# Altium footprint library footprintLIB.PcbLib: 49 footprints (part 1 of 4)
Each footprint in its own frame and in the unit in brackets; x right, y up, seen from the top. Pads: shape width x height; smd on the part's side, far side on the other; paste and mask are expansions set on the pad; w line width, h text height; cw(c..) or ccw(c..) is an arc to the next point about the centre after c.
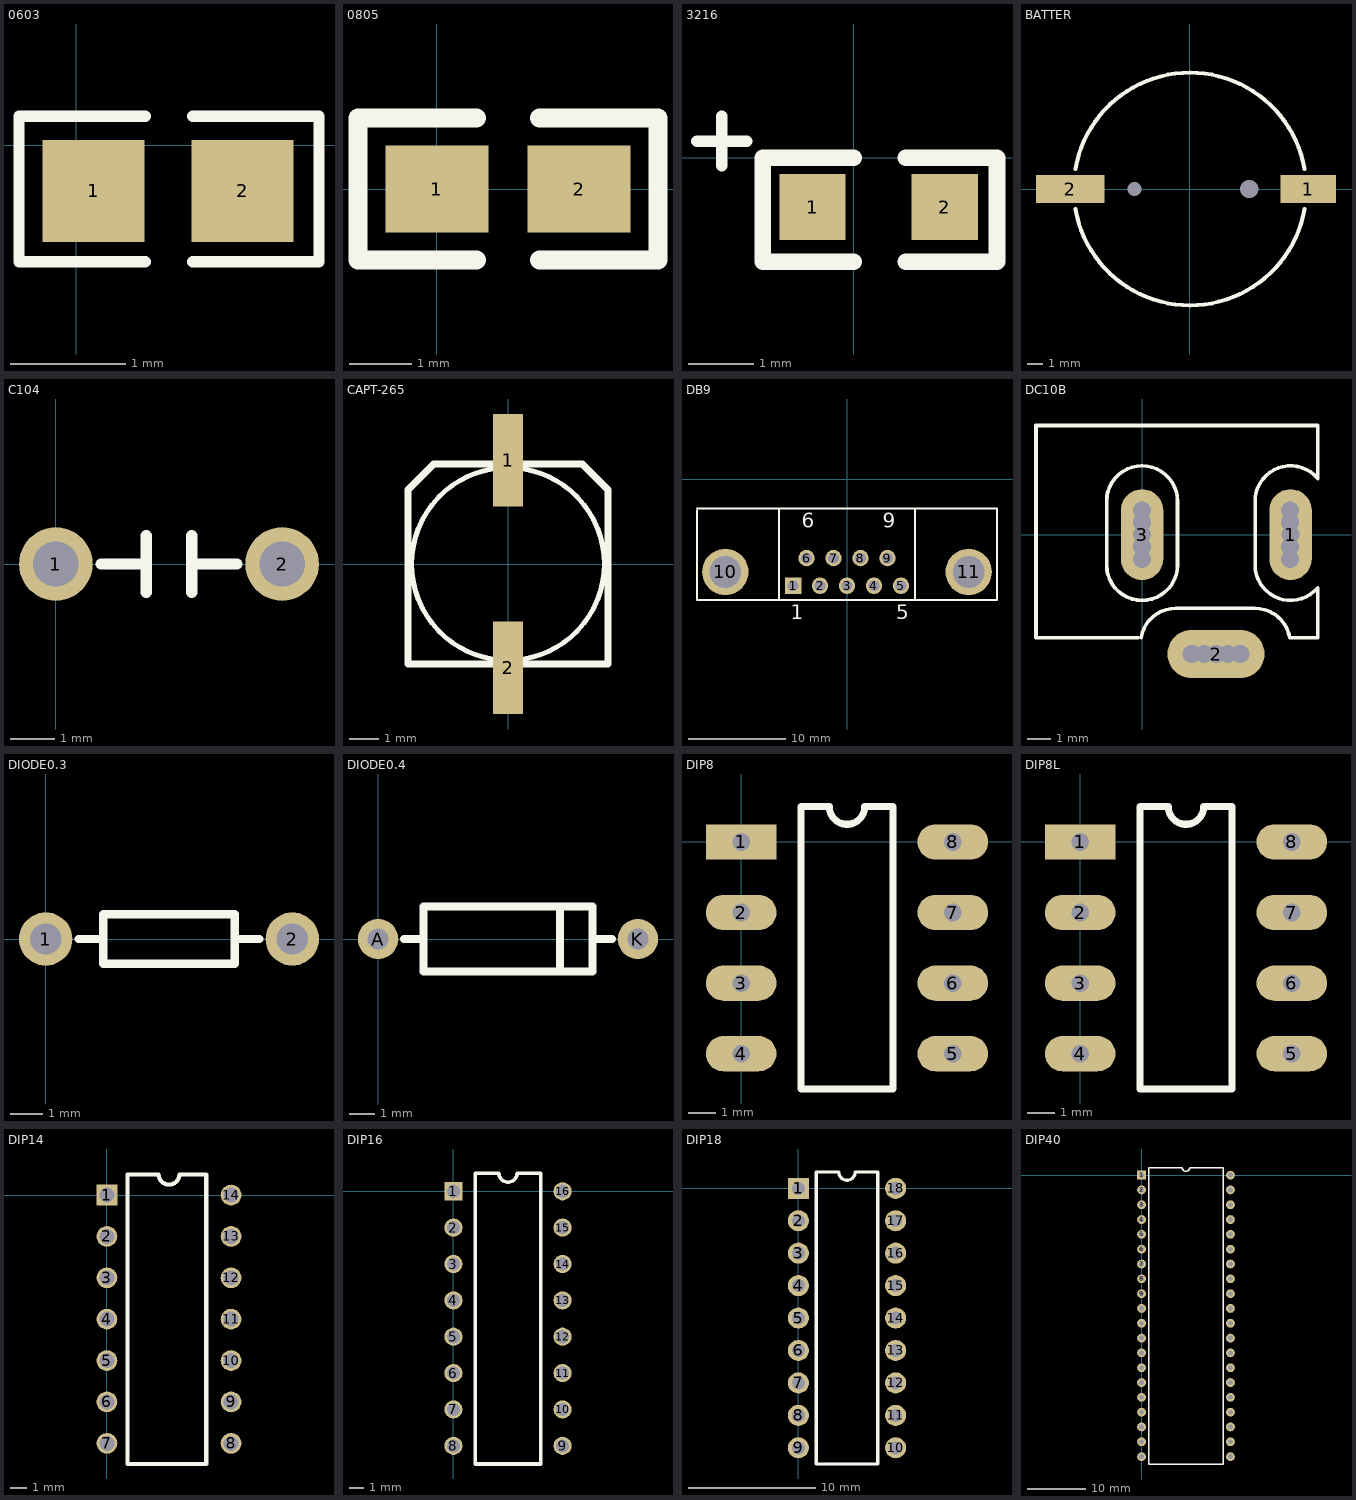
[diagram p0: the footprints below, top view; thin cyan lines are the x and y axes]

## 0603 [mm]
pads (2):
  rect 0.889x0.889 smd: 1(0.15,-0.4) 2(1.45,-0.4)
Top Overlay:
  lines w0.1: 0.6,-1.016 -0.5,-1.016 -0.5,0.25 0.6,0.25 ; 1.016,-1.016 2.116,-1.016 2.116,0.25 1.016,0.25

## 0805 [mil]
pads (2):
  rect 65x55 smd: 1(0,0) 2(90,0)
Top Overlay:
  lines w12: 25,-45 -50,-45 -50,45 25,45 ; 65,-45 140,-45 140,45 65,45

## 3216 [mil]
pads (2):
  rect 40x40 smd: 1(-25,-30) 2(55,-30)
Top Overlay:
  lines w7: -95,10 -65,10 ; -80,-5 -80,25
  lines w10: 0,-62.99 -55.12,-62.99 -55.12,0 0,0 ; 31.5,-62.99 86.61,-62.99 86.61,0 31.5,0

## BATTER [mm]
pads (4):
  rect 3.52x1.78 smd: 1(7.464,0)
  rect 4.32x1.78 smd: 2(-7.564,0)
  round 0 hole 0.9: ""(-3.5,0)
  round 0 hole 1.16: ""(3.75,0)
Top Overlay:
  lines w0.254: -7.238,-1.276 ccw(c0,0) 7.238,-1.276 ; -7.238,1.276 cw(c0,0) 7.238,1.276

## C104 [mil]
pads (2):
  round 65 hole 40: 1(0,0) 2(200,0)
Top Overlay:
  lines w10: 40,0 80,0 ; 80,-25 80,25 ; 120,-25 120,25 ; 120,0 160,0

## CAPT-265 [mil]
pads (2):
  rect 40x125 smd: 1(0,140) 2(0,-140)
Top Overlay:
  circle w6.69: c0,0 r130
  lines w10: -135,-135 135,-135 135,100 100,135 -100,135 -135,100 -135,-135

## DB9 [mm] "Connector; D Subminiature; 9 Position; Right Angle; Pitch 1.385 mm"
height 12.75
pads (11):
  rect 1.69x1.69 hole 1.09: 1(-5.54,-10.92)
  round 1.69 hole 1.09: 2(-2.77,-10.92) 3(0,-10.92) 4(2.77,-10.92) 5(5.54,-10.92) 6(-4.155,-8.08) 7(-1.385,-8.08) 8(1.385,-8.08) 9(4.155,-8.08)
  round 4.76 hole 3.26: 10(-12.495,-9.5) 11(12.495,-9.5)
Top Overlay:
  lines w0.2: -15.4,-3.175 -15.4,-12.4 15.4,-12.4 15.4,-3.048 ; -15.4,-3 15.4,-3 ; -7,-12.4 -7,-3 ; 7,-12.4 7,-3
  text "6" at -4.655,-4.975 h1.5
  text "9" at 3.655,-4.975 h1.5
  text "5" at 5.04,-14.375 h1.5
  text "1" at -5.79,-14.375 h1.5

## DC10B [mil]
pads (15):
  oval 70x150 hole 30: 1(245,0) 3(0,0)
  oval 160x80 hole 30: 2(122,-197)
  round 45 hole 30: ""(0,-40) ""(0,-20) ""(0,20) ""(0,40) ""(82.05,-196.85) ""(102.05,-196.85) ""(142.05,-196.85) ""(162.05,-196.85) ""(244.09,-40) ""(244.09,-20) ""(244.09,20) ""(244.09,40)
Top Overlay:
  lines w6: -6,-170 -175,-170 -175,180 290,180 289.83,92.62 ccw(c245,55) 186.48,55 186.48,-50 ccw(c245,-50) 289.83,-87.62 ; -1.63,-169.84 cw(c56,-180) 56,-121.48 186,-121.48 cw(c186,-180) 243.63,-169.84 ; 245,-170 290,-170 290,-90 ; -58.52,55 cw(c0,55) 58.52,55 ; -58.52,55 -58.52,-50 ccw(c0,-50) 58.52,-50 58.52,55 ; -58.52,55 -58.52,55 ; 58.52,55 58.52,55

## DIODE0.3 [mil] "www.ouravr.com"
pads (2):
  round 65 hole 38: 1(0,0) 2(300,0)
Top Overlay:
  lines w10: 40,0 70,0 ; 230,0 260,0 ; 70,0 70,-30 230,-30 230,30 70,30 70,0

## DIODE0.4 [mil]
pads (2):
  round 62 hole 32: A(0,0) K(400,0)
Top Overlay:
  lines w12: 40,0 70,0 ; 280,-50 280,50 ; 330,0 360,0 ; 70,-50 330,-50 330,50 70,50 70,-50

## DIP8 [mm]
pads (8):
  rect 2.54x1.27 hole 0.635: 1(0,0)
  oval 2.54x1.27 hole 0.635: 2(0,-2.54) 3(0,-5.08) 4(0,-7.62) 5(7.62,-7.62) 6(7.62,-5.08) 7(7.62,-2.54) 8(7.62,0)
Top Overlay:
  lines w0.254: 2.159,-8.89 5.461,-8.89 5.461,1.27 4.445,1.27 cw(c3.81,1.27) 3.175,1.27 2.159,1.27 2.159,-8.89

## DIP8L [mm]
pads (8):
  rect 2.54x1.27 hole 0.635: 1(0,0)
  oval 2.54x1.27 hole 0.635: 2(0,-2.54) 3(0,-5.08) 4(0,-7.62) 5(7.62,-7.62) 6(7.62,-5.08) 7(7.62,-2.54) 8(7.62,0)
Top Overlay:
  lines w0.254: 2.159,-8.89 2.159,1.27 3.175,1.27 ccw(c3.81,1.27) 4.445,1.27 5.461,1.27 5.461,-8.89 2.159,-8.89

## DIP14 [mil]
pads (14):
  rect 50x50 / inner rect 60x60 / far side rect 60x60 hole 36: 1(0,0)
  round 50 / inner round 60 / far side round 60 hole 36: 2(0,-100) 3(0,-200) 4(0,-300) 5(0,-400) 6(0,-500) 7(0,-600) 8(300,-600) 9(300,-500) 10(300,-400) 11(300,-300) 12(300,-200) 13(300,-100) 14(300,0)
Top Overlay:
  lines w10: 50,-650 50,50 125,50 ccw(c150,50) 175,50 240,50 240,-650 50,-650

## DIP16 [mil]
pads (16):
  rect 50x50 / inner rect 60x60 / far side rect 60x60 hole 36: 1(0,0)
  round 50 / inner round 60 / far side round 60 hole 36: 2(0,-100) 3(0,-200) 4(0,-300) 5(0,-400) 6(0,-500) 7(0,-600) 8(0,-700) 9(300,-700) 10(300,-600) 11(300,-500) 12(300,-400) 13(300,-300) 14(300,-200) 15(300,-100) 16(300,0)
Top Overlay:
  lines w10: 60,-750 60,50 125,50 ccw(c150,50) 175,50 240,50 240,-750 60,-750

## DIP18 [mil]
pads (18):
  rect 65x65 hole 40: 1(0,0)
  round 65 hole 40: 2(0,-100) 3(0,-200) 4(0,-300) 5(0,-400) 6(0,-500) 7(0,-600) 8(0,-700) 9(0,-800) 10(300,-800) 11(300,-700) 12(300,-600) 13(300,-500) 14(300,-400) 15(300,-300) 16(300,-200) 17(300,-100) 18(300,0)
Top Overlay:
  lines w10: 55,-850 245,-850 245,50 175,50 cw(c150,50) 125,50 55,50 55,-850

## DIP40 [mm]
pads (40):
  rect 1.5x1.5 hole 0.813: 1(0,0)
  round 1.5 hole 0.813: 2(0,-2.54) 3(0,-5.08) 4(0,-7.62) 5(0,-10.16) 6(0,-12.7) 7(0,-15.24) 8(0,-17.78) 9(0,-20.32) 10(0,-22.86) 11(0,-25.4) 12(0,-27.94) 13(0,-30.48) 14(0,-33.02) 15(0,-35.56) 16(0,-38.1) 17(0,-40.64) 18(0,-43.18) 19(0,-45.72) 20(0,-48.26) 21(15.24,-48.26) 22(15.24,-45.72) 23(15.24,-43.18) 24(15.24,-40.64) 25(15.24,-38.1) 26(15.24,-35.56) 27(15.24,-33.02) 28(15.24,-30.48) 29(15.24,-27.94) 30(15.24,-25.4) 31(15.24,-22.86) 32(15.24,-20.32) 33(15.24,-17.78) 34(15.24,-15.24) 35(15.24,-12.7) 36(15.24,-10.16) 37(15.24,-7.62) 38(15.24,-5.08) 39(15.24,-2.54) 40(15.24,0)
Top Overlay:
  lines w0.254: 1.27,-49.53 1.27,1.27 6.985,1.27 ccw(c7.62,1.27) 8.255,1.27 13.97,1.27 13.97,-49.53 1.27,-49.53